# EAGLE library part HN1A01FU-YLFCT (library open_covg)
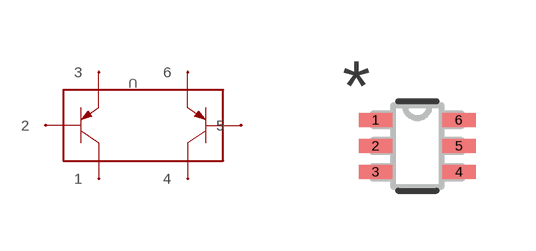
[diagram p19: symbol with the pads of SOT-363___(US6)_TOS; footprint SOT-363___(US6)_TOS]

Designator prefix -

## HN1A01FU-YLFCT  [SOT-363___(US6)_TOS]
1  1  pas
2  2  pas
3  3  pas
4  4  pas
5  5  pas
6  6  pas

## Footprint SOT-363___(US6)_TOS (pad centres in mm)
smd 0.838 x 0.356: 1 -1.041,0.65; 2 -1.041,0; 3 -1.041,-0.65; 4 1.041,-0.65; 5 1.041,0; 6 1.041,0.65